# Altium footprint library SamacSys.PcbLib: 2 footprints
Each footprint in its own frame and in the unit in brackets; x right, y up, seen from the top. Pads: shape width x height; smd on the part's side, far side on the other; paste and mask are expansions set on the pad; w line width, h text height; cw(c..) or ccw(c..) is an arc to the next point about the centre after c.
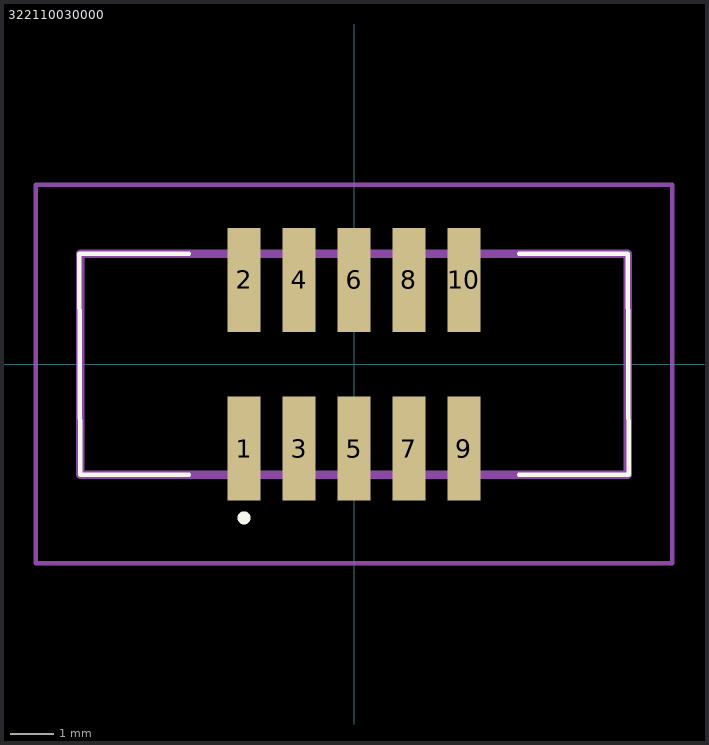
[diagram p0: the footprints below, top view; thin cyan lines are the x and y axes]

## 322110030000 [mm]
pads (10):
  rect 0.76x2.4 smd: 1(-2.54,-1.95) 2(-2.54,1.95) 3(-1.27,-1.95) 4(-1.27,1.95) 5(0,-1.95) 6(0,1.95) 7(1.27,-1.95) 8(1.27,1.95) 9(2.54,-1.95) 10(2.54,1.95)
Top Overlay:
  lines w0.1: -3.81,-2.55 -6.325,-2.55 -6.35,2.55 -3.81,2.55 ; 3.81,-2.55 6.35,-2.55 6.325,2.55 3.81,2.55
  lines w0.2: -2.54,-3.6 ccw(c-2.54,-3.55) -2.54,-3.5 ccw(c-2.54,-3.55) -2.54,-3.6
Mechanical 13:
  lines w0.2: -6.325,-2.55 -6.325,2.55 6.325,2.55 6.325,-2.55 -6.325,-2.55
Mechanical 15:
  lines w0.1: -7.35,-4.6 -7.35,4.15 ; -7.35,-4.6 7.35,-4.6 ; -7.35,-4.6 -7.35,4.15 ; -7.35,-4.6 7.35,-4.6 ; -7.35,4.15 7.35,4.15 ; -7.35,4.15 7.35,4.15 ; 7.35,-4.6 7.35,4.15 ; 7.35,-4.6 7.35,4.15
3D body "3221-10-0300-00.stp": height 5.9, standoff 0, extent -6.325,-3.074 6.325,3.074

## PCBComponent_1 [mm]